# Altium schematic symbol library BTS3408G.SchLib: 1 symbol
Pins are listed as number, name and electrical type; pins without a type are passive.

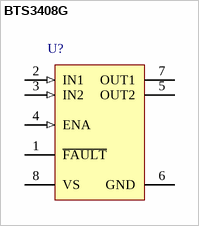
[diagram p0: symbol BTS3408G]

## BTS3408G
designator U?
Smart Low-Side Power Switch HITFET, 60 V VDS, 0.55 A ID, -40 to 150 degC, PG-DSO-8-36, Reel, Green; Manufacturer: Infineon; PartNumber: BTS3408G; Channels: 2; Green: TRUE; ID: 0.55 A; ID(lim) (min): 1 A; Ptot (max): 0.88 W; RDS (on)(max): 550 mOhm; ton (max): 8 us; VDS (max): 60 V; DatasheetVersion: Rev. 1.4; PackageVersion: Feb-13; PackageReference: PG-DSO-8-36; PackageDescription: 8-Pin Plastic (Green) Dual Small Outline Package, 4.9 x 3.9 mm Body, 1.27 mm Pitch; Supplier 1: Digi-Key; Supplier Part Number 1: BTS3408GTR-ND; Supplier 2: Digi-Key; Supplier Part Number 2: BTS3408GCT-ND; Supplier 3: Digi-Key; Supplier Part Number 3: BTS3408GDKR-ND; Supplier 4: Mouser; Supplier Part Number 4: 726-BTS3408G; Group: HITFET; Halogen-free: TRUE; ID(nom): 0.55 A; Packing: Reel; toff (max): 8 us; Mounting Technology: Surface Mount; ComponentLink1Description: Manufacturer URL; ComponentLink1URL: http://www.infineon.com/; ComponentLink2Description: Datasheet; ComponentLink2URL: http://www.infineon.com/dgdl/BTS3408G_DS_14.pdf?folderId=db3a3043163797a6011667aa084c0e01&fileId=db3a30433d346a2d013d587dc22c0785&location=en.Products.Automotive_ICs.Smart_High-_and_Low-Side_Switches.HITFET___TEMPFET__-_Smart_Low-Side_Switches.DATASHEET.BTS3408G_DS_14.pdf; ComponentLink3Description: Package Specification; ComponentLink3URL: http://www.infineon.com/dgdl/BTS3408G_DS_14.pdf?folderId=db3a3043163797a6011667aa084c0e01&fileId=db3a30433d346a2d013d587dc22c0785&location=en.Products.Automotive_ICs.Smart_High-_and_Low-Side_Switches.HITFET___TEMPFET__-_Smart_Low-Side_Switches.DATASHEET.BTS3408G_DS_14.pdf
footprint INF-PG-DSO-8-36_N (SOP, 8-Leads, Body 4.9x3.9mm, Pitch 1.27mm, IPC Medium Density)
footprint INF-PG-DSO-8-36_L (SOP, 8-Leads, Body 4.9x3.9mm, Pitch 1.27mm, IPC High Density)
footprint INF-PG-DSO-8-36_M (SOP, 8-Leads, Body 4.9x3.9mm, Pitch 1.27mm, IPC Low Density)
pins: 1 ~{FAULT} (oc) "General Fault Flag; see Table 2 for operation mode.", 2 IN1 (in) "Input 1; input of channel 1; has an internal pull down; TTL/CMOS compatible input.", 3 IN2 (in) "Input 2; input of channel 2; has an internal pull down; TTL/CMOS compatible input.", 4 ENA (in) "Enable/Freeze; has an internal pull down; device is enabled when voltage is higher then 1.2 volts; if the voltage is below 1.7 volts the output is freezed, input signals will be ignored; if the voltage is above 2 volts input (See Datasheet)", 5 OUT2 (power) "Output 2; output of D-MOS stage 2.", 6 GND (power) "Ground.", 7 OUT1 (power) "Output 1; output of D-MOS stage 1.", 8 VS (power) "Power supply."